# Altium footprint library Footprint.PcbLib: 97 footprints (part 7 of 7)
Each footprint in its own frame and in the unit in brackets; x right, y up, seen from the top. Pads: shape width x height; smd on the part's side, far side on the other; paste and mask are expansions set on the pad; w line width, h text height; cw(c..) or ccw(c..) is an arc to the next point about the centre after c.
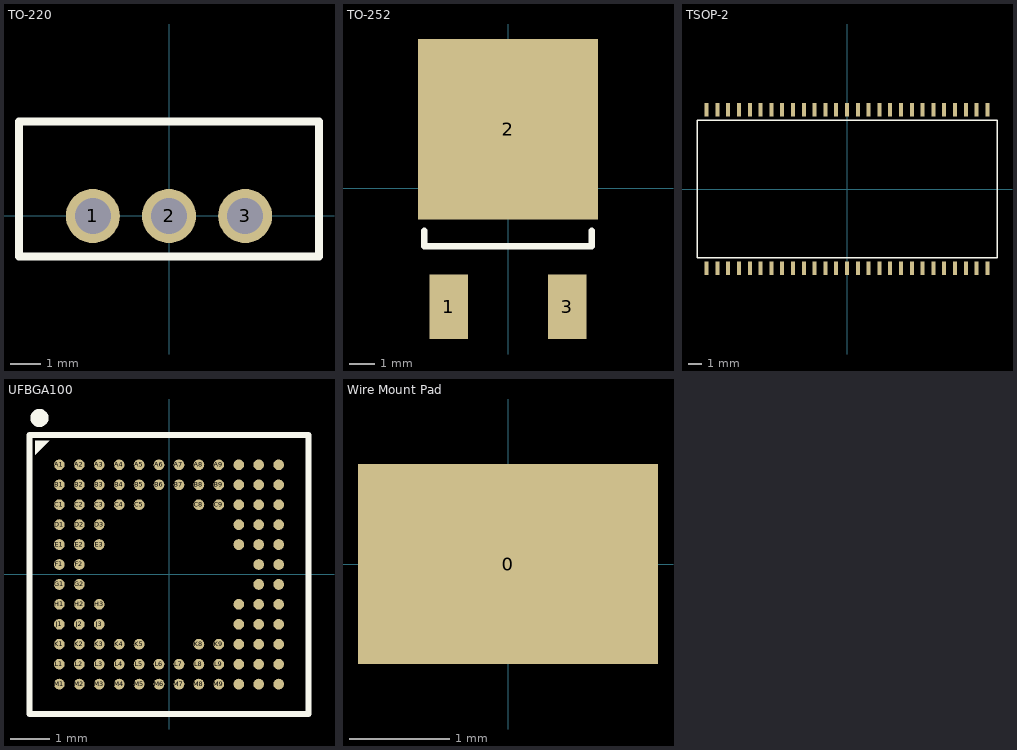
[diagram p6: the footprints below, top view; thin cyan lines are the x and y axes]

## TO-220 [mm]
pads (3):
  round 1.8 hole 1.2: 1(-2.54,0) 2(0,0) 3(2.54,0)
Top Overlay:
  lines w0.254: -5,-1.35 5,-1.35 5,3.15 -5,3.15 -5,-1.35
3D body: height 1, standoff 0, extent -0.65,-0.35 0.65,0.35
3D body: height 0, standoff -8.5, extent -0.4,-0.35 0.4,0.35
3D body: height 5, standoff 1, extent -0.6,-0.35 0.6,0.35
3D body: height 20, standoff 5, extent -5,0.85 5,3.15
3D body: height 13, standoff 5, extent -5,-1.35 5,0.85
3D body: height 20, standoff 5, extent -5,0.35 5,0.85
3D body: height 5, standoff 1, extent -3.14,-0.35 -1.94,0.35
3D body: height 0, standoff -8.5, extent -2.94,-0.35 -2.14,0.35
3D body: height 1, standoff 0, extent -3.19,-0.35 -1.89,0.35
3D body: height 5, standoff 1, extent 1.94,-0.35 3.14,0.35
3D body: height 0, standoff -8.5, extent 2.14,-0.35 2.94,0.35
3D body: height 1, standoff 0, extent 1.89,-0.35 3.19,0.35

## TO-252 [mm]
pads (3):
  rect 1.5x2.5 smd: 1(-2.3,-4.6) 3(2.3,-4.6)
  rect 7x7 smd: 2(0,2.3)
Top Overlay:
  lines w0.254: -3.25,-1.65 -3.25,-2.25 3.25,-2.25 3.25,-1.65
3D body: height 1.65, standoff 1.15, extent -0.325,-3.15 0.325,-2.25
3D body: height 0.5, standoff 0, extent 1.975,-4.75 2.625,-3.95
3D body: height 1.65, standoff 1.15, extent 1.975,-3.15 2.625,-2.25
3D body: height 1.15, standoff 0.5, extent 1.925,-3.95 2.675,-3.45
3D body: height 1.65, standoff 1.15, extent 1.975,-3.95 2.625,-3.15
3D body: height 0.5, standoff 0, extent 1.975,-3.95 2.625,-3.45
3D body: height 0.5, standoff 0, extent -2.625,-3.95 -1.975,-3.45
3D body: height 1.65, standoff 1.15, extent -2.625,-3.95 -1.975,-3.15
3D body: height 1.15, standoff 0.5, extent -2.675,-3.95 -1.925,-3.45
3D body: height 0.5, standoff 0, extent 0,-0.5 0.65,0
3D body: height 1.65, standoff 1.15, extent -2.625,-3.15 -1.975,-2.25
3D body: height 0.5, standoff 0, extent -2.625,-4.75 -1.975,-3.95
3D body: height 0.5, standoff 0, extent -2.55,3.25 2.55,4.75
3D body: height 2.3, standoff 0, extent -3.25,-2.25 3.25,3.25

## TSOP-2 [mm]
pads (54):
  rect 0.3x1 smd: 1(-10.4,-5.88) 2(-9.6,-5.88) 3(-8.8,-5.88) 4(-8,-5.88) 5(-7.2,-5.88) 6(-6.4,-5.88) 7(-5.6,-5.88) 8(-4.8,-5.88) 9(-4,-5.88) 10(-3.2,-5.88) 11(-2.4,-5.88) 12(-1.6,-5.88) 13(-0.8,-5.88) 14(0,-5.88) 15(0.8,-5.88) 16(1.6,-5.88) 17(2.4,-5.88) 18(3.2,-5.88) 19(4,-5.88) 20(4.8,-5.88) 21(5.6,-5.88) 22(6.4,-5.88) 23(7.2,-5.88) 24(8,-5.88) 25(8.8,-5.88) 26(9.6,-5.88) 27(10.4,-5.88) 28(10.4,5.88) 29(9.6,5.88) 30(8.8,5.88) 31(8,5.88) 32(7.2,5.88) 33(6.4,5.88) 34(5.6,5.88) 35(4.8,5.88) 36(4,5.88) 37(3.2,5.88) 38(2.4,5.88) 39(1.6,5.88) 40(0.8,5.88) 41(0,5.88) 42(-0.8,5.88) 43(-1.6,5.88) 44(-2.4,5.88) 45(-3.2,5.88) 46(-4,5.88) 47(-4.8,5.88) 48(-5.6,5.88) 49(-7.2,5.88) 50(-6.4,5.88) 51(-8,5.88) 52(-8.8,5.88) 53(-9.6,5.88) 54(-10.4,5.88)
Top Overlay:
  lines w0.1: -11.11,-5.08 -11.11,5.08 11.11,5.08 11.11,-5.08 -11.11,-5.08

## UFBGA100 [mm]
pads (100):
  round 0.27 smd mask+0.04: A1(-2.75,2.75) A2(-2.25,2.75) A3(-1.75,2.75) A4(-1.25,2.75) A5(-0.75,2.75) A6(-0.25,2.75) A7(0.25,2.75) A8(0.75,2.75) A9(1.25,2.75) A10(1.75,2.75) A11(2.25,2.75) A12(2.75,2.75) B1(-2.75,2.25) B2(-2.25,2.25) B3(-1.75,2.25) B4(-1.25,2.25) B5(-0.75,2.25) B6(-0.25,2.25) B7(0.25,2.25) B8(0.75,2.25) B9(1.25,2.25) B10(1.75,2.25) B11(2.25,2.25) B12(2.75,2.25) C1(-2.75,1.75) C2(-2.25,1.75) C3(-1.75,1.75) C4(-1.25,1.75) C5(-0.75,1.75) C8(0.75,1.75) C9(1.25,1.75) C10(1.75,1.75) C11(2.25,1.75) C12(2.75,1.75) D1(-2.75,1.25) D2(-2.25,1.25) D3(-1.75,1.25) D10(1.75,1.25) D11(2.25,1.25) D12(2.75,1.25) E1(-2.75,0.75) E2(-2.25,0.75) E3(-1.75,0.75) E10(1.75,0.75) E11(2.25,0.75) E12(2.75,0.75) F1(-2.75,0.25) F2(-2.25,0.25) F11(2.25,0.25) F12(2.75,0.25) G1(-2.75,-0.25) G2(-2.25,-0.25) G11(2.25,-0.25) G12(2.75,-0.25) H1(-2.75,-0.75) H2(-2.25,-0.75) H3(-1.75,-0.75) H10(1.75,-0.75) H11(2.25,-0.75) H12(2.75,-0.75) J1(-2.75,-1.25) J2(-2.25,-1.25) J3(-1.75,-1.25) J10(1.75,-1.25) J11(2.25,-1.25) J12(2.75,-1.25) K1(-2.75,-1.75) K2(-2.25,-1.75) K3(-1.75,-1.75) K4(-1.25,-1.75) K5(-0.75,-1.75) K8(0.75,-1.75) K9(1.25,-1.75) K10(1.75,-1.75) K11(2.25,-1.75) K12(2.75,-1.75) L1(-2.75,-2.25) L2(-2.25,-2.25) L3(-1.75,-2.25) L4(-1.25,-2.25) L5(-0.75,-2.25) L6(-0.25,-2.25) L7(0.25,-2.25) L8(0.75,-2.25) L9(1.25,-2.25) L10(1.75,-2.25) L11(2.25,-2.25) L12(2.75,-2.25) M1(-2.75,-2.75) M2(-2.25,-2.75) M3(-1.75,-2.75) M4(-1.25,-2.75) M5(-0.75,-2.75) M6(-0.25,-2.75) M7(0.25,-2.75) M8(0.75,-2.75) M9(1.25,-2.75) M10(1.75,-2.75) M11(2.25,-2.75) M12(2.75,-2.75)
Top Overlay:
  circle w0.254: c-3.25,3.925 r0.1
  region: -3.35,3.35 -3,3.35 -3.35,3
  lines w0.152: -3.5,-3.5 -3.5,3.5 3.5,3.5 3.5,-3.5 -3.5,-3.5
3D body: height 0.53, standoff 0.08, extent -3.5,-3.5 3.5,3.5
3D body: height 0.25, standoff 0, extent -2.875,2.625 -2.626,2.874
3D body: height 0.25, standoff 0, extent -2.375,2.625 -2.126,2.874
3D body: height 0.25, standoff 0, extent -1.875,2.625 -1.626,2.874
3D body: height 0.25, standoff 0, extent -1.375,2.625 -1.126,2.874
3D body: height 0.25, standoff 0, extent -0.875,2.625 -0.626,2.874
3D body: height 0.25, standoff 0, extent -0.375,2.625 -0.126,2.874
3D body: height 0.25, standoff 0, extent 0.125,2.625 0.374,2.874
3D body: height 0.25, standoff 0, extent 0.625,2.625 0.874,2.874
3D body: height 0.25, standoff 0, extent 1.125,2.625 1.374,2.874
3D body: height 0.25, standoff 0, extent 1.625,2.625 1.874,2.874
3D body: height 0.25, standoff 0, extent 2.125,2.625 2.374,2.874
3D body: height 0.25, standoff 0, extent 2.625,2.625 2.874,2.874
3D body: height 0.25, standoff 0, extent 2.625,2.126 2.874,2.374
3D body: height 0.25, standoff 0, extent 2.125,2.126 2.374,2.374
3D body: height 0.25, standoff 0, extent 1.625,2.126 1.874,2.374
3D body: height 0.25, standoff 0, extent 1.125,2.126 1.374,2.374
3D body: height 0.25, standoff 0, extent 0.625,2.126 0.874,2.374
3D body: height 0.25, standoff 0, extent 0.125,2.126 0.374,2.374
3D body: height 0.25, standoff 0, extent -0.375,2.126 -0.126,2.374
3D body: height 0.25, standoff 0, extent -0.875,2.126 -0.626,2.374
3D body: height 0.25, standoff 0, extent -1.375,2.126 -1.126,2.374
3D body: height 0.25, standoff 0, extent -1.875,2.126 -1.626,2.374
3D body: height 0.25, standoff 0, extent -2.375,2.126 -2.126,2.374
3D body: height 0.25, standoff 0, extent -2.875,2.126 -2.626,2.374
3D body: height 0.25, standoff 0, extent 2.625,1.626 2.874,1.874
3D body: height 0.25, standoff 0, extent 2.125,1.626 2.374,1.874
3D body: height 0.25, standoff 0, extent 1.625,1.626 1.874,1.874
3D body: height 0.25, standoff 0, extent 1.125,1.626 1.374,1.874
3D body: height 0.25, standoff 0, extent 0.625,1.626 0.874,1.874
3D body: height 0.25, standoff 0, extent -0.875,1.626 -0.626,1.874
3D body: height 0.25, standoff 0, extent -1.375,1.626 -1.126,1.874
3D body: height 0.25, standoff 0, extent -1.875,1.626 -1.626,1.874
3D body: height 0.25, standoff 0, extent -2.375,1.626 -2.126,1.874
3D body: height 0.25, standoff 0, extent -2.875,1.626 -2.626,1.874
3D body: height 0.25, standoff 0, extent 2.625,1.126 2.874,1.374
3D body: height 0.25, standoff 0, extent 2.125,1.126 2.374,1.374
3D body: height 0.25, standoff 0, extent 1.625,1.126 1.874,1.374
3D body: height 0.25, standoff 0, extent -1.875,1.126 -1.626,1.374
3D body: height 0.25, standoff 0, extent -2.375,1.126 -2.126,1.374
3D body: height 0.25, standoff 0, extent -2.875,1.126 -2.626,1.374
3D body: height 0.25, standoff 0, extent 2.625,0.626 2.874,0.874
3D body: height 0.25, standoff 0, extent 2.125,0.626 2.374,0.874
3D body: height 0.25, standoff 0, extent 1.625,0.626 1.874,0.874
3D body: height 0.25, standoff 0, extent -1.875,0.626 -1.626,0.874
3D body: height 0.25, standoff 0, extent -2.375,0.626 -2.126,0.874
3D body: height 0.25, standoff 0, extent -2.875,0.626 -2.626,0.874
3D body: height 0.25, standoff 0, extent 2.625,0.126 2.874,0.374
3D body: height 0.25, standoff 0, extent 2.125,0.126 2.374,0.374
3D body: height 0.25, standoff 0, extent -2.375,0.126 -2.126,0.374
3D body: height 0.25, standoff 0, extent -2.875,0.126 -2.626,0.374
3D body: height 0.25, standoff 0, extent 2.625,-0.374 2.874,-0.126
3D body: height 0.25, standoff 0, extent 2.125,-0.374 2.374,-0.126
3D body: height 0.25, standoff 0, extent -2.375,-0.374 -2.126,-0.126
3D body: height 0.25, standoff 0, extent -2.875,-0.374 -2.626,-0.126
3D body: height 0.25, standoff 0, extent 2.625,-0.874 2.874,-0.626
3D body: height 0.25, standoff 0, extent 2.125,-0.874 2.374,-0.626
3D body: height 0.25, standoff 0, extent 1.625,-0.874 1.874,-0.626
3D body: height 0.25, standoff 0, extent -1.875,-0.874 -1.626,-0.626
3D body: height 0.25, standoff 0, extent -2.375,-0.874 -2.126,-0.626
3D body: height 0.25, standoff 0, extent -2.875,-0.874 -2.626,-0.626
3D body: height 0.25, standoff 0, extent 2.625,-1.374 2.874,-1.126
3D body: height 0.25, standoff 0, extent 2.125,-1.374 2.374,-1.126
3D body: height 0.25, standoff 0, extent 1.625,-1.374 1.874,-1.126
3D body: height 0.25, standoff 0, extent -1.875,-1.374 -1.626,-1.126
3D body: height 0.25, standoff 0, extent -2.375,-1.374 -2.126,-1.126
3D body: height 0.25, standoff 0, extent -2.875,-1.374 -2.626,-1.126
3D body: height 0.25, standoff 0, extent 2.625,-1.874 2.874,-1.626
3D body: height 0.25, standoff 0, extent 2.125,-1.874 2.374,-1.626
3D body: height 0.25, standoff 0, extent 1.625,-1.874 1.874,-1.626
3D body: height 0.25, standoff 0, extent 1.125,-1.874 1.374,-1.626
3D body: height 0.25, standoff 0, extent 0.625,-1.874 0.874,-1.626
3D body: height 0.25, standoff 0, extent -0.875,-1.874 -0.626,-1.626
3D body: height 0.25, standoff 0, extent -1.375,-1.874 -1.126,-1.626
3D body: height 0.25, standoff 0, extent -1.875,-1.874 -1.626,-1.626
3D body: height 0.25, standoff 0, extent -2.375,-1.874 -2.126,-1.626
3D body: height 0.25, standoff 0, extent -2.875,-1.874 -2.626,-1.626
3D body: height 0.25, standoff 0, extent 2.625,-2.374 2.874,-2.126
3D body: height 0.25, standoff 0, extent 2.125,-2.374 2.374,-2.126
3D body: height 0.25, standoff 0, extent 1.625,-2.374 1.874,-2.126
3D body: height 0.25, standoff 0, extent 1.125,-2.374 1.374,-2.126
3D body: height 0.25, standoff 0, extent 0.625,-2.374 0.874,-2.126
3D body: height 0.25, standoff 0, extent 0.125,-2.374 0.374,-2.126
3D body: height 0.25, standoff 0, extent -0.375,-2.374 -0.126,-2.126
3D body: height 0.25, standoff 0, extent -0.875,-2.374 -0.626,-2.126
3D body: height 0.25, standoff 0, extent -1.375,-2.374 -1.126,-2.126
3D body: height 0.25, standoff 0, extent -1.875,-2.374 -1.626,-2.126
3D body: height 0.25, standoff 0, extent -2.375,-2.374 -2.126,-2.126
3D body: height 0.25, standoff 0, extent -2.875,-2.374 -2.626,-2.126
3D body: height 0.25, standoff 0, extent 2.625,-2.874 2.874,-2.626
3D body: height 0.25, standoff 0, extent 2.125,-2.874 2.374,-2.626
3D body: height 0.25, standoff 0, extent 1.625,-2.874 1.874,-2.626
3D body: height 0.25, standoff 0, extent 1.125,-2.874 1.374,-2.626
3D body: height 0.25, standoff 0, extent 0.625,-2.874 0.874,-2.626
3D body: height 0.25, standoff 0, extent 0.125,-2.874 0.374,-2.626
3D body: height 0.25, standoff 0, extent -0.375,-2.874 -0.126,-2.626
3D body: height 0.25, standoff 0, extent -0.875,-2.874 -0.626,-2.626
3D body: height 0.25, standoff 0, extent -1.375,-2.874 -1.126,-2.626
3D body: height 0.25, standoff 0, extent -1.875,-2.874 -1.626,-2.626
3D body: height 0.25, standoff 0, extent -2.375,-2.874 -2.126,-2.626
3D body: height 0.25, standoff 0, extent -2.875,-2.874 -2.626,-2.626

## Wire Mount Pad [mm]
pads (1):
  rect 3x2 smd: 0(0,0)